# Altium schematic symbol library Unknown.SchLib: 2 symbols
Pins are listed as number, name and electrical type; pins without a type are passive.

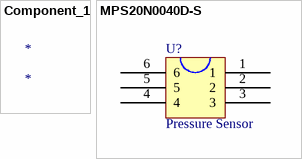
[diagram p0: symbols Component_1 to MPS20N0040D-S]

## Component_1
designator *

## MPS20N0040D-S
designator U?, comment Pressure Sensor
footprint Pressure sensor-SOP6 (MPS20N0040D-S, XGZP160)
pins: 1, 2, 3, 4, 5, 6
2 alternate drawings of the same symbol